# EAGLE library part VISHAY_SFH6916 (library Upverter Library)
OPTOISO 3.75KV 4CH TRANS 16-SOP
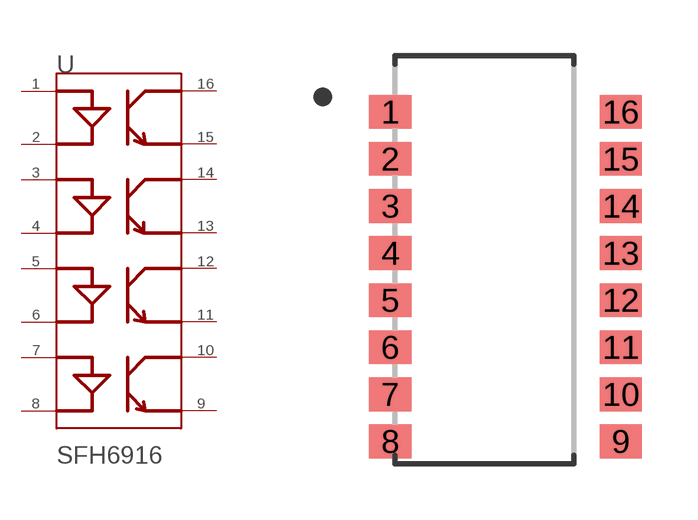
[diagram p0: symbol with the pads of VISHAY_SFH6916_0; footprint VISHAY_SFH6916_0]

Designator prefix U

## VISHAY_SFH6916VISHAY_SFH6916_0_0 (MF: Vishay; MPN: SFH6916; centroid_not_specified: No; collector_emitter_saturation_voltage: 0.1V; current_transfer_ratio: 300%; datasheet: http://www.vishay.com/docs/83687/sfh6916.pdf; device_class_L1: Optoelectronics; device_class_L2: Optocouplers; device_class_L3: unset; digikey_description: IC OPTOISO 3.75KV 4CH TRANS 16-SOP; digikey_part_number: 751-1370-5-ND; forward_current: 50mA; forward_voltage: 1.15V; height: 2.16mm; lead_free: yes; max_junction_temp: +100°C; mfg_package_ident: SFH6916; mfg_package_ident_date: 0; mfg_package_ident_rev: 0; mouser_description: SFH6916 Series Quad Channel 70 V 3750 Vrms Optocoupler Phototransistor - SOIC-16; mouser_part_number: 782-SFH6916; package: SOP16; prefix: U; rohs: yes; standoff_height: 0mm; temperature_range_high: +100°C; temperature_range_low: -55°C; turn_off_delay_time: 4us; turn_on_delay_time: 5us; verification_version: 0.0.0.1)  [VISHAY_SFH6916_0]
1  1_ANODE  pas
2  1_CATHODE  pas
3  2_ANODE  pas
4  2_CATHODE  pas
5  3_ANODE  pas
6  3_CATHODE  pas
7  4_ANODE  pas
8  4_CATHODE  pas
9  4_EMITTER  pas
10  4_COLLECTOR  pas
11  3_EMITTER  pas
12  3_COLLECTOR  pas
13  2_EMITTER  pas
14  2_COLLECTOR  pas
15  1_EMITTER  pas
16  1_COLLECTOR  pas

## Footprint VISHAY_SFH6916_0 (pad centres in mm)
OPTOISO 3.75KV 4CH TRANS 16-SOP
smd 1.14 x 0.91: 1 -2.54,3.99; 2 -2.54,2.72; 3 -2.54,1.45; 4 -2.54,0.18; 5 -2.54,-1.09; 6 -2.54,-2.36; 7 -2.54,-3.63; 8 -2.54,-4.9; 9 3.68,-4.9; 10 3.68,-3.63; 11 3.68,-2.36; 12 3.68,-1.09; 13 3.68,0.18; 14 3.68,1.45; 15 3.68,2.72; 16 3.68,3.99